# Altium schematic symbol library SK-3245S-L1-A.SchLib: 1 symbol
Pins are listed as number, name and electrical type; pins without a type are passive.

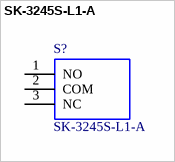
[diagram p0: symbol SK-3245S-L1-A]

## SK-3245S-L1-A
designator S?
Toggle switch, horizontal stick two gears 3 feet, double row of high temperature salt fog resistance 24 hours,9.0x3.5x3.2, black handle height 2.0mm; Manufacturer_Name: XKB Connectivity; Geometry.Height: 3.65mm; Manufacturer_Part_Number: SK-3245S-L1-A; Mouser Part Number: *; Mouser Price/Stock: *; Arrow Part Number: *; Arrow Price/Stock: *; Mouser Testing Part Number: *; Mouser Testing Price/Stock: *; Datasheet Link: http://www.helloxkb.com/public/images/pdf/SK-3245S-X-X.pdf
footprint SK3245SL1A
pins: 1 NO, 2 COM, 3 NC